# EAGLE library part 503398-1892 (library ubo_PQ60)
1.10mm Pitch microSD Memory Card Connector, Normal Mount Surface Mount, Push-Push Type, 1.28mm Height
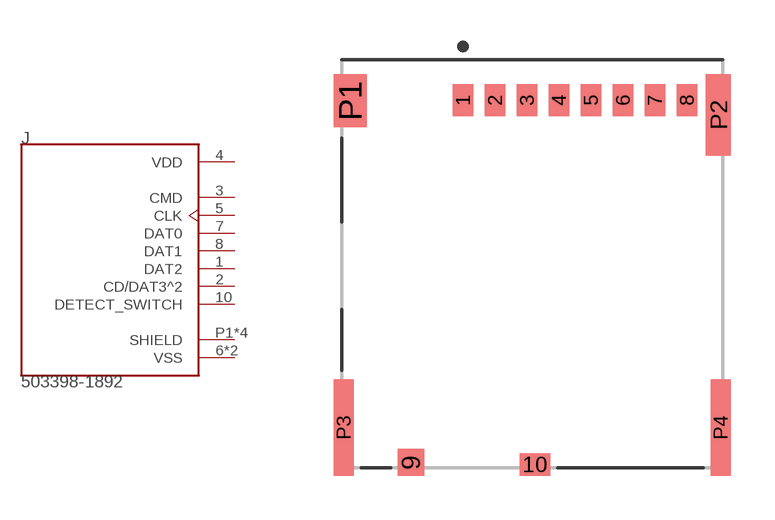
[diagram p33: symbol with the pads of MOLEX_503398-1892; footprint MOLEX_503398-1892]

Designator prefix J

## 503398-1892 (DESCRIPTION: 1.10mm Pitch microSD Memory Card Connector, Normal Mount Surface Mount, Push-Push Type, 1.28mm Height; DIGI-KEY_PART_NUMBER: WM11190CT-ND; DIGI-KEY_PURCHASE_URL: https://www.digikey.com/product-detail/en/molex/5033981892/WM11190CT-ND/5230912?utm_source=snapeda&utm_medium=aggregator&utm_campaign=symbol; MF: Molex; MP: 503398-1892; PACKAGE: None)  [MOLEX_503398-1892]
1  DAT2  pas
2  CD/DAT3^2  pas
3  CMD  pas
4  VDD  pwr
5  CLK  pas
6  VSS  pwr
7  DAT0  pas
8  DAT1  pas
9  VSS  pwr
10  DETECT_SWITCH  pas
P1  SHIELD  pas
P2  SHIELD  pas
P3  SHIELD  pas
P4  SHIELD  pas

## Footprint MOLEX_503398-1892 (pad centres in mm)
smd 0.7 x 1.1: 1 -2.38,5.625; 2 -1.28,5.625; 3 -0.18,5.625; 4 0.92,5.625; 5 2.02,5.625; 6 3.12,5.625; 7 4.22,5.625; 8 5.32,5.625
smd 0.9 x 0.93: 9 -4.17,-6.84
smd 1.05 x 0.78: 10 0.095,-6.915
smd 1.14 x 1.83: P1 -6.26,5.61
smd 0.86 x 2.8: P2 6.4,5.125
smd 0.7 x 3.33: P3 -6.48,-5.64; P4 6.48,-5.64